# Altium schematic symbol library 74LVC2G17GW-Q100H.Schlib: 1 symbol
Pins are listed as number, name and electrical type; pins without a type are passive.

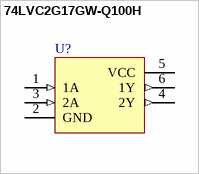
[diagram p0: symbol 74LVC2G17GW-Q100H]

## 74LVC2G17GW-Q100H
designator U?
Dual non-inverting Schmitt trigger with 5 V tolerant input
pins: 1 1A (in), 2 GND (power), 3 2A (in), 4 2Y (out), 5 VCC (power), 6 1Y (out)